# Altium schematic symbol library 150080GS75000.SchLib: 1 symbol
Pins are listed as number, name and electrical type; pins without a type are passive.

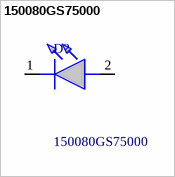
[diagram p0: symbol 150080GS75000]

## 150080GS75000
designator D?
WL-SMCW SMT Mono-Color Chip LED Waterclear 0805, Green Typ.(@20mA): 520nm, 450mcd, 3.2V, 140 InGaN; Manufacturer_Name: Wurth Elektronik; Geometry.Height: 0.7mm; Manufacturer_Part_Number: 150080GS75000; Mouser Part Number: 710-150080GS75000; Mouser Price/Stock: https://www.mouser.co.uk/ProductDetail/Wurth-Elektronik/150080GS75000?qs=2kOmHSv6VfQRoTEZVk1mGA%3D%3D; Arrow Part Number: *; Arrow Price/Stock: *; Datasheet Link: https://www.we-online.com/components/products/download/Download_3D_150080GS75000+%28rev1%29.pdf
footprint LEDM2012X70N
pins: 1 K, 2 A